# Altium integrated library XT30-60.IntLib: 4 symbols
Pins are listed as number, name and electrical type; pins without a type are passive.

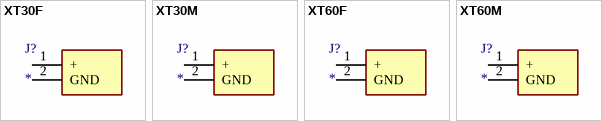
[diagram p0: symbols XT30F to XT60M]

## XT30F
designator J?
Connector; Manufacturer_Name: Amass; Manufacturer_Part_Number: XT30PW-F; Datasheet Link: https://www.tme.eu/Document/ce4077e36b79046da520ca73227e15de/XT30PW%20SPEC.pdf; Height: 5mm
footprint XT30PW-F
footprint XT30LI-F
pins: 1 +, 2 GND

## XT30M
designator J?
Connector; Manufacturer_Name: Amass; Manufacturer_Part_Number: XT30PW-M; Datasheet Link: https://www.tme.eu/sl/Document/ce4077e36b79046da520ca73227e15de/XT30PW%20SPEC.pdf; Height: 5mm
footprint XT30PW-M
footprint XT30LI-M
pins: 1 +, 2 GND

## XT60F
designator J?
Connector; Manufacturer_Name: Amass; Manufacturer_Part_Number: XT30PW-F; Datasheet Link: https://www.tme.eu/Document/ce4077e36b79046da520ca73227e15de/XT30PW%20SPEC.pdf; Height: 5mm
footprint TX60PW-F
footprint TX60LI-F
pins: 1 +, 2 GND

## XT60M
designator J?
Connector; Manufacturer_Name: Amass; Manufacturer_Part_Number: XT30PW-M; Datasheet Link: https://www.tme.eu/sl/Document/ce4077e36b79046da520ca73227e15de/XT30PW%20SPEC.pdf; Height: 5mm
footprint TX60LI-M
footprint TX60PW-M
pins: 1 +, 2 GND